# EAGLE library part 74HC30PW (library NXP_By_element14_Batch_1)
8-input NAND gate
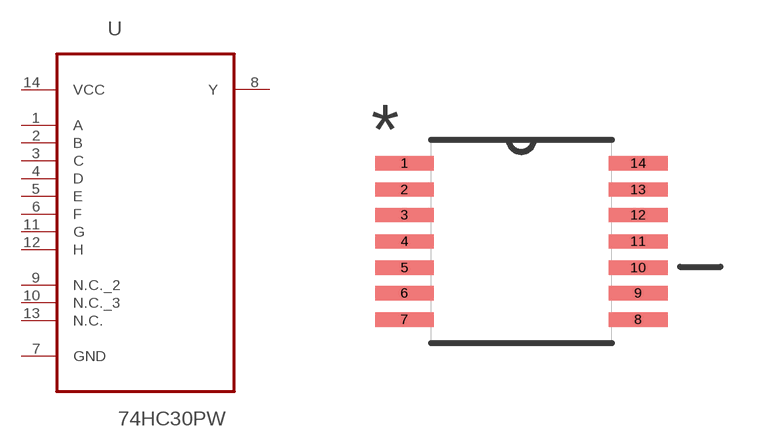
[diagram p71: symbol with the pads of SOP65P640X110-14N; footprint SOP65P640X110-14N]

Designator prefix U

## 74HC30PW (MPN: 74HC30PW; OC_FARNELL: 1631673; OC_NEWARK: 03P2762; PACKAGE: TSSOP-14; SUPPLIER: NXP)  [SOP65P640X110-14N]
1  A  in
2  B  in
3  C  in
4  D  in
5  E  in
6  F  in
7  GND  pas
8  Y  out
9  N.C._2  nc
10  N.C._3  nc
11  G  in
12  H  in
13  N.C.  nc
14  VCC  pwr

## Footprint SOP65P640X110-14N (pad centres in mm)
smd 1.473 x 0.356: 1 -2.921,1.956; 2 -2.921,1.295; 3 -2.921,0.66; 4 -2.921,0; 5 -2.921,-0.66; 6 -2.921,-1.295; 7 -2.921,-1.956; 8 2.921,-1.956; 9 2.921,-1.295; 10 2.921,-0.66; 11 2.921,0; 12 2.921,0.66; 13 2.921,1.295; 14 2.921,1.956